# Altium footprint library Crystal.PcbLib: 2 footprints
Each footprint in its own frame and in the unit in brackets; x right, y up, seen from the top. Pads: shape width x height; smd on the part's side, far side on the other; paste and mask are expansions set on the pad; w line width, h text height; cw(c..) or ccw(c..) is an arc to the next point about the centre after c.
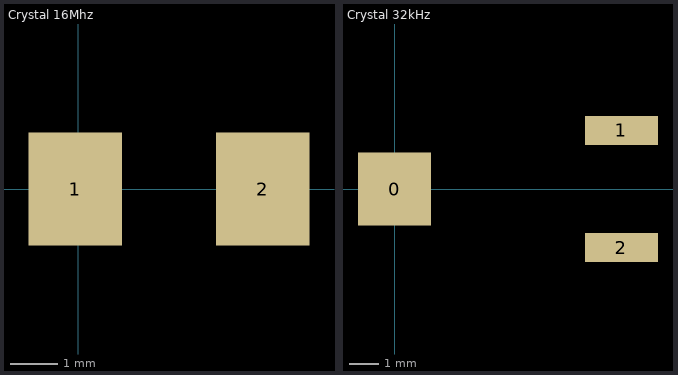
[diagram p0: the footprints below, top view; thin cyan lines are the x and y axes]

## Crystal 16Mhz [mm]
pads (2):
  rect 2x2.4 smd: 1(-0.063,0) 2(3.937,0)

## Crystal 32kHz [mm]
pads (3):
  rect 2.5x2.5 smd: 0(0,0)
  rect 2.5x1 smd: 1(7.75,2) 2(7.75,-2)